# EAGLE library part DIST_OR_CONTROL_ALT (library Dist_OR_Controller)
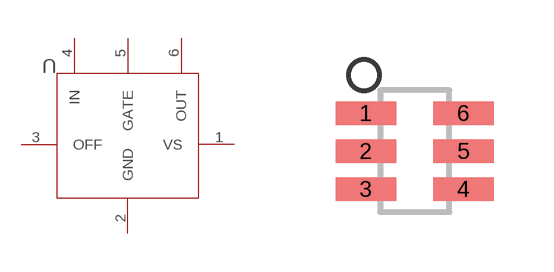
[diagram p1: symbol with the pads of SOT-23-6; footprint SOT-23-6]

Designator prefix U

## DIST_OR_CONTROL_ALTMK06A-M (BASEPN: LM5050-1; DATASHEETURL: http://www.ti.com/lit/ds/symlink/lm5050-1.pdf; DESCRIPTION: High Side OR-ing FET Controller; MANUFACTURER: Texas Instruments; MANUFACTURER_PART_NUMBER: LM5050MK-1/NOPB; NSC_PACKAGEREFERENCE: MK06A; VENDOR: Texas Instruments)  [SOT-23-6]
1  VS  pas
2  GND  pwr
3  OFF  pas
4  IN  in
5  GATE  pas
6  OUT  out

## Footprint SOT-23-6 (pad centres in mm)
smd 1.524 x 0.584: 1 -1.219,0.95; 2 -1.219,0; 3 -1.219,-0.95; 4 1.219,-0.95; 5 1.219,0; 6 1.219,0.95